# EAGLE library part MPC508AU (library burr-brown)
Single-Ended 8-Channel/Differential 4-Channel CMOS Analog Multiplexers
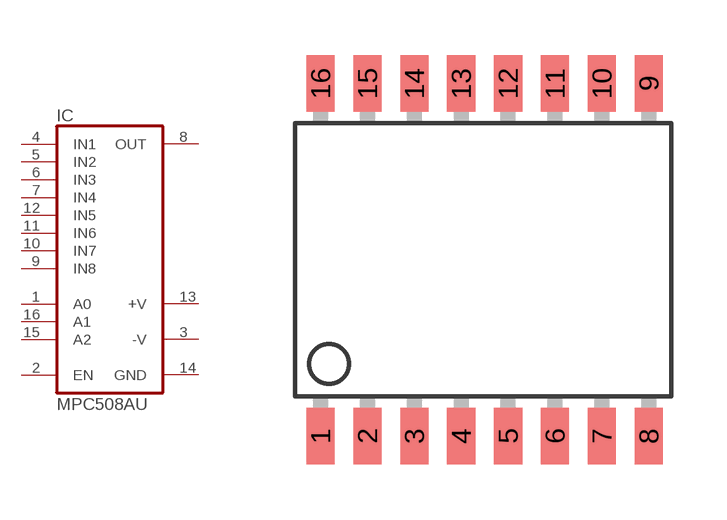
[diagram p22: symbol with the pads of SO16-1; footprint SO16-1]

Designator prefix IC

## MPC508AU  [SO16-1]
1  A0  in
2  EN  in
3  -V  pwr
4  IN1  in
5  IN2  in
6  IN3  in
7  IN4  in
8  OUT  out
9  IN8  in
10  IN7  in
11  IN6  in
12  IN5  in
13  +V  pwr
14  GND  pwr
15  A2  in
16  A1  in

## Footprint SO16-1 (pad centres in mm)
smd 0.762 x 1.524: 1 -4.445,-4.775; 2 -3.175,-4.775; 3 -1.905,-4.775; 4 -0.635,-4.775; 5 0.635,-4.775; 6 1.905,-4.775; 7 3.175,-4.775; 8 4.445,-4.775; 9 4.445,4.775; 10 3.175,4.775; 11 1.905,4.775; 12 0.635,4.775; 13 -0.635,4.775; 14 -1.905,4.775; 15 -3.175,4.775; 16 -4.445,4.775